# EAGLE library part CON-DB15HD (library Digilent)
DB-15 Connector
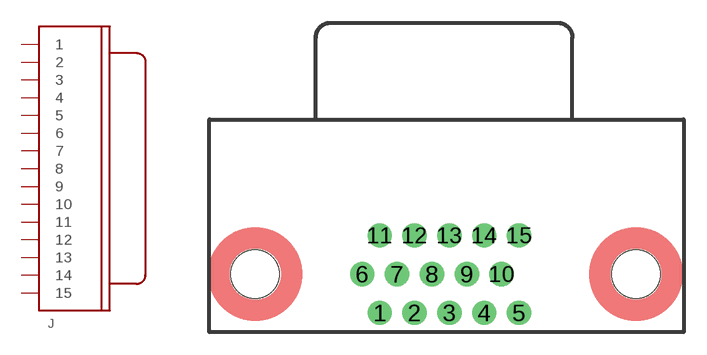
[diagram p9: symbol with the pads of CON-DB15HD; footprint CON-DB15HD]

Designator prefix J

## CON-DB15HD  [CON-DB15HD]
1  1  pas
2  2  pas
3  3  pas
4  4  pas
5  5  pas
6  6  pas
7  7  pas
8  8  pas
9  9  pas
10  10  pas
11  11  pas
12  12  pas
13  13  pas
14  14  pas
15  15  pas

## Footprint CON-DB15HD (pad centres in mm)
drill 1.067 round: 1 -3.429,-2.54; 2 -1.143,-2.54; 3 1.143,-2.54; 4 3.429,-2.54; 5 5.715,-2.54; 6 -4.572,0; 7 -2.286,0; 8 0,0; 9 2.286,0; 10 4.572,0; 11 -3.429,2.54; 12 -1.143,2.54; 13 1.143,2.54; 14 3.429,2.54; 15 5.715,2.54
hole 3.175 at -11.608,0
hole 3.175 at 13.386,0